# EAGLE library part B18B-PUDSS-1 (library con-jst-pud)
JST connector, PUD series, 2.0mm spacing, crimp style, wire-to-board, 18 pin, top entry (with boss)
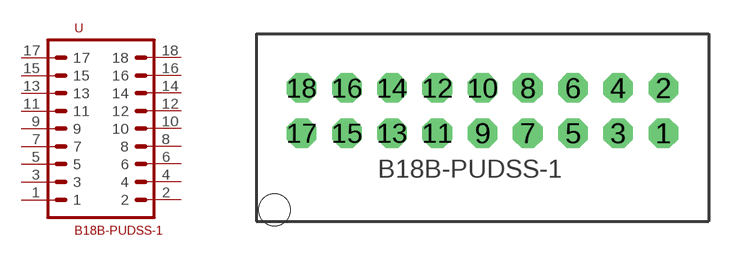
[diagram p13: symbol with the pads of PUD_18_PIN_TOP_ENTRY; footprint PUD_18_PIN_TOP_ENTRY]

Designator prefix -

## B18B-PUDSS-1 (DIGIKEY: 455-2504-ND; MF: JST; MPN: B18B-PUDSS-1)  [PUD_18_PIN_TOP_ENTRY]
1  1
2  2
3  3
4  4
5  5
6  6
7  7
8  8
9  9
10  10
11  11
12  12
13  13
14  14
15  15
16  16
17  17
18  18

## Footprint PUD_18_PIN_TOP_ENTRY (pad centres in mm)
drill 0.8 octagon: 1 8,0; 2 8,2; 3 6,0; 4 6,2; 5 4,0; 6 4,2; 7 2,0; 8 2,2; 9 0,0; 10 0,2; 11 -2,0; 12 -2,2; 13 -4,0; 14 -4,2; 15 -6,0; 16 -6,2; 17 -8,0; 18 -8,2
hole 1.4 at -9.2,-3.4